# EAGLE library part MURATA_OKL-T/6-W12N-C (library user)
ムラタの電源IC 秋月電子通商 M-06187 秋月電子の電源モジュールの中ではカタログスペック最強
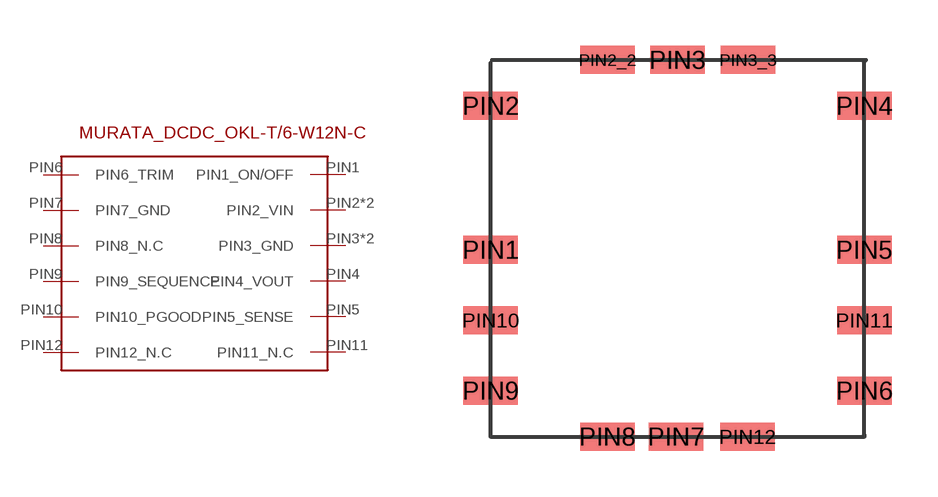
[diagram p0: symbol with the pads of MURATA_OKL-T/6-W12N-C; footprint MURATA_OKL-T/6-W12N-C]

Designator prefix -

## MURATA_OKL-T/6-W12N-C  [MURATA_OKL-T/6-W12N-C]
PIN1  PIN1_ON/OFF
PIN2  PIN2_VIN
PIN2_2  PIN2_VIN
PIN3  PIN3_GND
PIN3_3  PIN3_GND
PIN4  PIN4_VOUT
PIN5  PIN5_SENSE
PIN6  PIN6_TRIM
PIN7  PIN7_GND
PIN8  PIN8_N.C
PIN9  PIN9_SEQUENCE
PIN10  PIN10_PGOOD
PIN11  PIN11_N.C
PIN12  PIN12_N.C

## Footprint MURATA_OKL-T/6-W12N-C (pad centres in mm)
smd 1.778 x 0.914: PIN1 0,4.6; PIN2 0,9.3; PIN2_2 3.81,10.8; PIN3 6.1,10.8; PIN3_3 8.4,10.8; PIN4 12.2,9.3; PIN5 12.2,4.6; PIN6 12.2,0; PIN7 6.05,-1.5; PIN8 3.81,-1.5; PIN9 0,0; PIN10 0,2.3; PIN11 12.2,2.3; PIN12 8.39,-1.5